# EAGLE library part PIC18F242-I_SP (library SamacSys_Parts)
Enhanced Flash Microcontroller Source: Datasheet <http://componentsearchengine.com/Datasheets/1/PIC18F242-I_SP.pdf>
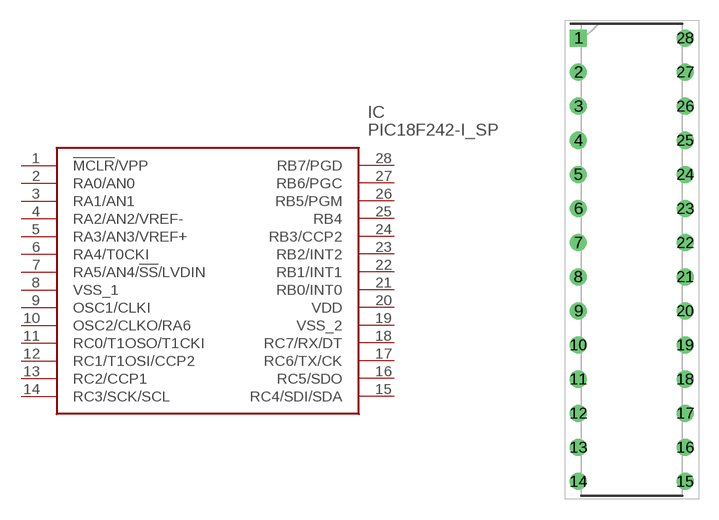
[diagram p8: symbol with the pads of DIP794W56P254L3467H406Q28N; footprint DIP794W56P254L3467H406Q28N]

Designator prefix IC

## PIC18F242-I_SP (DESCRIPTION: Enhanced Flash Microcontroller; HEIGHT: 4.06mm; MANUFACTURER_NAME: Microchip; MANUFACTURER_PART_NUMBER: PIC18F242-I/SP; MOUSER_PART_NUMBER: 579-PIC18F242-I/SP; MOUSER_PRICE-STOCK: https://www.mouser.co.uk/ProductDetail/Microchip-Technology/PIC18F242-I-SP?qs=%2FvIJ7rfmPzGXs9Di9HK7mA%3D%3D)  [DIP794W56P254L3467H406Q28N]
1  !MCLR!/VPP
2  RA0/AN0
3  RA1/AN1
4  RA2/AN2/VREF-
5  RA3/AN3/VREF+
6  RA4/T0CKI
7  RA5/AN4/!SS!/LVDIN
8  VSS_1
9  OSC1/CLKI
10  OSC2/CLKO/RA6
11  RC0/T1OSO/T1CKI
12  RC1/T1OSI/CCP2
13  RC2/CCP1
14  RC3/SCK/SCL
15  RC4/SDI/SDA
16  RC5/SDO
17  RC6/TX/CK
18  RC7/RX/DT
19  VSS_2
20  VDD
21  RB0/INT0
22  RB1/INT1
23  RB2/INT2
24  RB3/CCP2
25  RB4
26  RB5/PGM
27  RB6/PGC
28  RB7/PGD

## Footprint DIP794W56P254L3467H406Q28N (pad centres in mm)
pdip28
drill 0.76 pad 1.16 square: 1 -3.97,16.51
drill 0.76 pad 1.16: 2 -3.97,13.97; 3 -3.97,11.43; 4 -3.97,8.89; 5 -3.97,6.35; 6 -3.97,3.81; 7 -3.97,1.27; 8 -3.97,-1.27; 9 -3.97,-3.81; 10 -3.97,-6.35; 11 -3.97,-8.89; 12 -3.97,-11.43; 13 -3.97,-13.97; 14 -3.97,-16.51; 15 3.97,-16.51; 16 3.97,-13.97; 17 3.97,-11.43; 18 3.97,-8.89; 19 3.97,-6.35; 20 3.97,-3.81; 21 3.97,-1.27; 22 3.97,1.27; 23 3.97,3.81; 24 3.97,6.35; 25 3.97,8.89; 26 3.97,11.43; 27 3.97,13.97; 28 3.97,16.51